# Altium schematic symbol library DBM.SchLib: 1 symbol
Pins are listed as number, name and electrical type; pins without a type are passive.

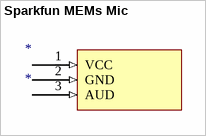
[diagram p0: symbol Sparkfun MEMs Mic]

## Sparkfun MEMs Mic
designator *
pins: 1 VCC (in), 2 GND (in), 3 AUD (in)